# Altium footprint library PCB - CONNECTOR - HIROSE - HIROSE GT36-11P-DSA(B).PcbLib: 1 footprints
Each footprint in its own frame and in the unit in brackets; x right, y up, seen from the top. Pads: shape width x height; smd on the part's side, far side on the other; paste and mask are expansions set on the pad; w line width, h text height; cw(c..) or ccw(c..) is an arc to the next point about the centre after c.
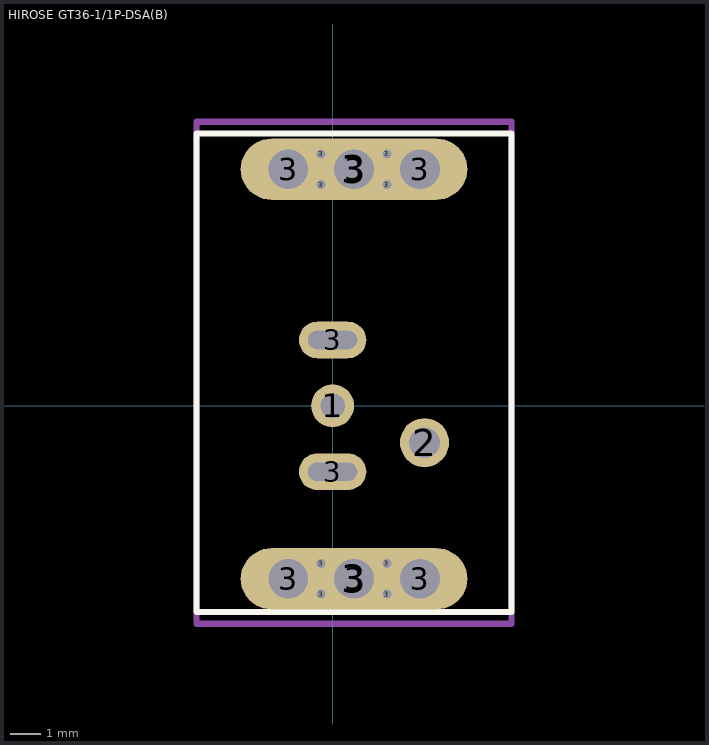
[diagram p0: the footprint, top view; thin cyan lines are the x and y axes]

## HIROSE GT36-1/1P-DSA(B) [mm] "Hirose GT36 series connector for antenna"
height 16.3
pads (20):
  round 1.4 hole 0.8: 1(0,0)
  round 1.6 hole 1: 2(3,-1.2)
  round 1.3 hole 1.3: 3(-1.45,-5.645) 3(-1.45,7.725) 3(0.7,-5.645) 3(0.7,7.725) 3(2.85,-5.645) 3(2.85,7.725)
  round 0.3 hole 0.3: 3(-0.375,-6.145) 3(-0.375,-5.145) 3(-0.375,7.225) 3(-0.375,8.225) 3(1.775,-6.145) 3(1.775,-5.145) 3(1.775,7.225) 3(1.775,8.225)
  oval 2.2x1.2 hole 0.6 slot 1.6 at 0 deg: 3(0,-2.15) 3(0,2.15)
  oval 7.4x2 all layers, no hole: 3(0.7,-5.645) 3(0.7,7.725)
Top Overlay:
  lines w0.2: -4.445,-6.731 5.842,-6.731 5.842,8.89 -4.445,8.89 -4.445,-6.731
Mechanical 15 (Mech15):
  lines w0.2: -4.445,-7.112 5.842,-7.112 5.842,9.271 -4.445,9.271 -4.445,-7.112
3D body "GT36-11P-DSA(B).stp": height 16.3, standoff -1.25, extent -4.4,-6.7 5.8,8.8
3D body: height 16.3, standoff -1.25, extent 11.2,6.35 11.2,6.35
3D body: height 0.25, standoff 0, extent -3.275,12.95 -3.275,12.95
3D body: height 0.25, standoff 0, extent -1.35,15.75 -1.35,15.75